# Altium schematic symbol library XGL3520-681.Schlib: 1 symbol
Pins are listed as number, name and electrical type; pins without a type are passive.

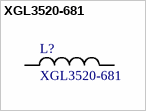
[diagram p0: symbol XGL3520-681]

## XGL3520-681
designator L?
Inductor
pins: 1, 2